# EAGLE library part STEF4S (library stef4s_10)
Electronic Fuse for 3.3V and 5V Lines Source: http://www.st.com/st-web-ui/static/active/en/resource/technical/document/datasheet/DM00095426.pdf
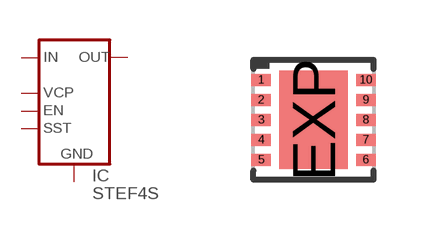
[diagram p0: symbol with the pads of DFN10-3X3; footprint DFN10-3X3]

Designator prefix IC

## STEF4SPUR (MF: STMicroelectronics; MPN: STEF4SPUR; OC_FARNELL: 2435570; OC_NEWARK: 82X2160)  [DFN10-3X3]
1  IN  in
2  IN  in
3  IN  in
4  VCP  in
5  GND  in
6  SST  pas
7  EN  in
8  OUT  pas
9  OUT  pas
10  OUT  pas
EXP  GND  in

## Footprint DFN10-3X3 (pad centres in mm)
10-Lead Plastic Dual Flat No Lead Package - 3x3 mm Body [DFN] Source: http://www.st.com/st-web-ui/static/active/en/resource/technical/document/datasheet/DM00095426.pdf
smd 0.48 x 0.3: 1 -1.31,1; 2 -1.31,0.5; 3 -1.31,0; 4 -1.31,-0.5; 5 -1.31,-1; 6 1.31,-1; 7 1.31,-0.5; 8 1.31,0; 9 1.31,0.5; 10 1.31,1
smd 1.71 x 2.46: EXP 0,0